# EAGLE library part EG912YEUAA-N06-SNNSA (library EG912YEUAA-N06-SNNSA)
DESCRIPTION PLACE HOLDER Source: Datasheet
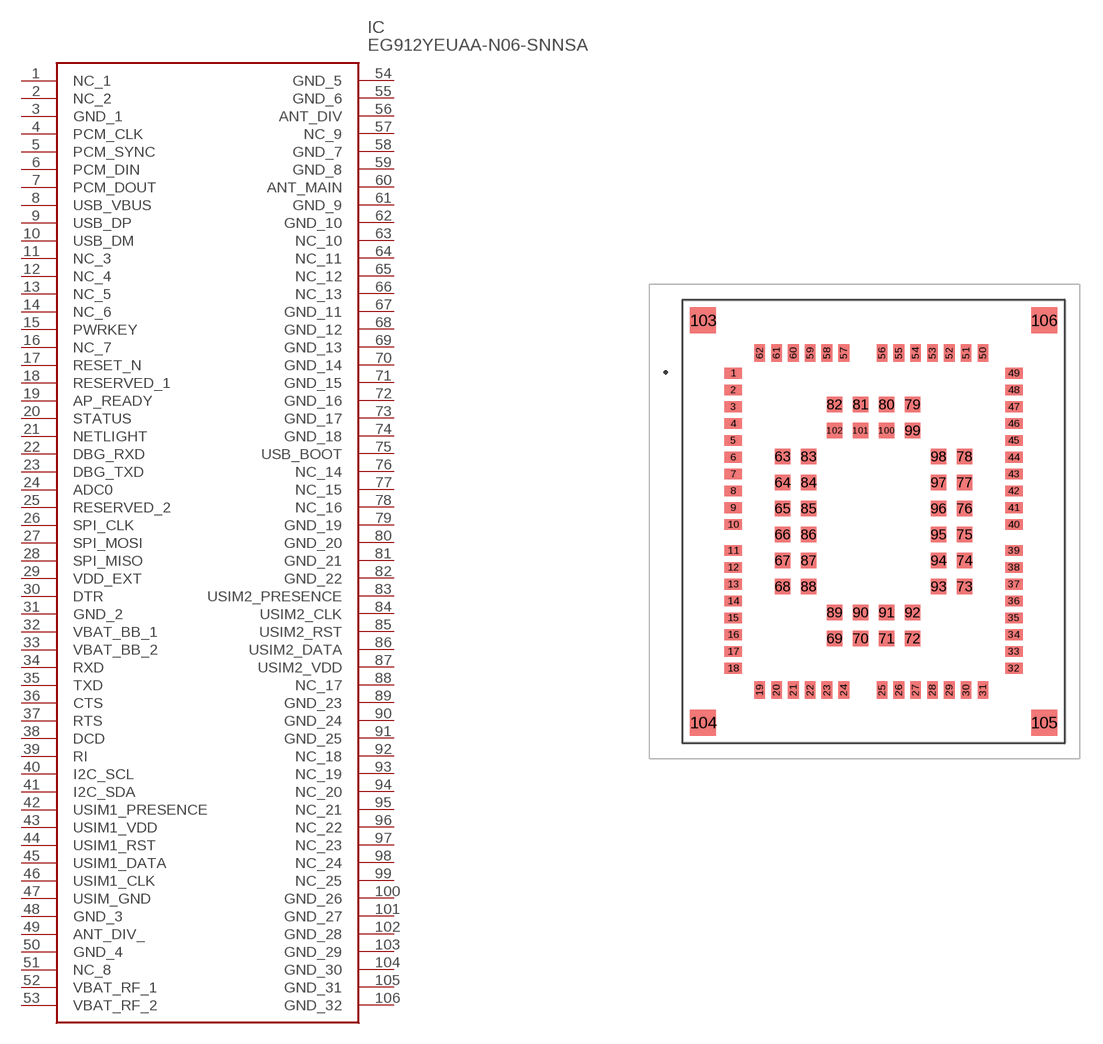
[diagram p0: symbol with the pads of EG912YEUAAN06SNNSA; footprint EG912YEUAAN06SNNSA]

Designator prefix IC

## EG912YEUAA-N06-SNNSA (Arrow_Part_Number: EG912YEUAA-N06-SNNSA; Arrow_Price-Stock: https://www.arrow.com/en/products/eg912yeuaa-n06-snnsa/quectel-wireless-solutions-co-ltd?region=nac; Description: DESCRIPTION PLACE HOLDER; Height: 2.5mm; Manufacturer_Name: Quectel; Manufacturer_Part_Number: EG912YEUAA-N06-SNNSA; Mouser_Part_Number: 277-EG912YEUAN6SNNSA; Mouser_Price-Stock: https://www.mouser.co.uk/ProductDetail/Quectel/EG912YEUAA-N06-SNNSA?qs=zW32dvEIR3tlKTTxnXn4Aw%3D%3D)  [EG912YEUAAN06SNNSA]
1  NC_1
2  NC_2
3  GND_1
4  PCM_CLK
5  PCM_SYNC
6  PCM_DIN
7  PCM_DOUT
8  USB_VBUS
9  USB_DP
10  USB_DM
11  NC_3
12  NC_4
13  NC_5
14  NC_6
15  PWRKEY
16  NC_7
17  RESET_N
18  RESERVED_1
19  AP_READY
20  STATUS
21  NETLIGHT
22  DBG_RXD
23  DBG_TXD
24  ADC0
25  RESERVED_2
26  SPI_CLK
27  SPI_MOSI
28  SPI_MISO
29  VDD_EXT
30  DTR
31  GND_2
32  VBAT_BB_1
33  VBAT_BB_2
34  RXD
35  TXD
36  CTS
37  RTS
38  DCD
39  RI
40  I2C_SCL
41  I2C_SDA
42  USIM1_PRESENCE
43  USIM1_VDD
44  USIM1_RST
45  USIM1_DATA
46  USIM1_CLK
47  USIM_GND
48  GND_3
49  ANT_DIV_
50  GND_4
51  NC_8
52  VBAT_RF_1
53  VBAT_RF_2
54  GND_5
55  GND_6
56  ANT_DIV
57  NC_9
58  GND_7
59  GND_8
60  ANT_MAIN
61  GND_9
62  GND_10
63  NC_10
64  NC_11
65  NC_12
66  NC_13
67  GND_11
68  GND_12
69  GND_13
70  GND_14
71  GND_15
72  GND_16
73  GND_17
74  GND_18
75  USB_BOOT
76  NC_14
77  NC_15
78  NC_16
79  GND_19
80  GND_20
81  GND_21
82  GND_22
83  USIM2_PRESENCE
84  USIM2_CLK
85  USIM2_RST
86  USIM2_DATA
87  USIM2_VDD
88  NC_17
89  GND_23
90  GND_24
91  GND_25
92  NC_18
93  NC_19
94  NC_20
95  NC_21
96  NC_22
97  NC_23
98  NC_24
99  NC_25
100  GND_26
101  GND_27
102  GND_28
103  GND_29
104  GND_30
105  GND_31
106  GND_32

## Footprint EG912YEUAAN06SNNSA (pad centres in mm)
EG912YEUAA-N06-SNNSA-1
smd 1.15 x 0.7: 1 -9.175,9.7; 2 -9.175,8.6; 3 -9.175,7.5; 4 -9.175,6.4; 5 -9.175,5.3; 6 -9.175,4.2; 7 -9.175,3.1; 8 -9.175,2; 9 -9.175,0.9; 10 -9.175,-0.2; 11 -9.175,-1.9; 12 -9.175,-3; 13 -9.175,-4.1; 14 -9.175,-5.2; 15 -9.175,-6.3; 16 -9.175,-7.4; 17 -9.175,-8.5; 18 -9.175,-9.6; 32 9.175,-9.6; 33 9.175,-8.5; 34 9.175,-7.4; 35 9.175,-6.3; 36 9.175,-5.2; 37 9.175,-4.1; 38 9.175,-3; 39 9.175,-1.9; 40 9.175,-0.2; 41 9.175,0.9; 42 9.175,2; 43 9.175,3.1; 44 9.175,4.2; 45 9.175,5.3; 46 9.175,6.4; 47 9.175,7.5; 48 9.175,8.6; 49 9.175,9.7
smd 0.7 x 1.15: 19 -7.45,-11.025; 20 -6.35,-11.025; 21 -5.25,-11.025; 22 -4.15,-11.025; 23 -3.05,-11.025; 24 -1.95,-11.025; 25 0.55,-11.025; 26 1.65,-11.025; 27 2.75,-11.025; 28 3.85,-11.025; 29 4.95,-11.025; 30 6.05,-11.025; 31 7.15,-11.025; 50 7.15,11.025; 51 6.05,11.025; 52 4.95,11.025; 53 3.85,11.025; 54 2.75,11.025; 55 1.65,11.025; 56 0.55,11.025; 57 -1.95,11.025; 58 -3.05,11.025; 59 -4.15,11.025; 60 -5.25,11.025; 61 -6.35,11.025; 62 -7.45,11.025
smd 1 x 1: 63 -5.95,4.25; 64 -5.95,2.55; 65 -5.95,0.85; 66 -5.95,-0.85; 67 -5.95,-2.55; 68 -5.95,-4.25; 69 -2.55,-7.65; 70 -0.85,-7.65; 71 0.85,-7.65; 72 2.55,-7.65; 73 5.95,-4.25; 74 5.95,-2.55; 75 5.95,-0.85; 76 5.95,0.85; 77 5.95,2.55; 78 5.95,4.25; 79 2.55,7.65; 80 0.85,7.65; 81 -0.85,7.65; 82 -2.55,7.65; 83 -4.25,4.25; 84 -4.25,2.55; 85 -4.25,0.85; 86 -4.25,-0.85; 87 -4.25,-2.55; 88 -4.25,-4.25; 89 -2.55,-5.95; 90 -0.85,-5.95; 91 0.85,-5.95; 92 2.55,-5.95; 93 4.25,-4.25; 94 4.25,-2.55; 95 4.25,-0.85; 96 4.25,0.85; 97 4.25,2.55; 98 4.25,4.25; 99 2.55,5.95; 100 0.85,5.95; 101 -0.85,5.95; 102 -2.55,5.95
smd 1.7 x 1.7: 103 -11.15,13.15; 104 -11.15,-13.15; 105 11.15,-13.15; 106 11.15,13.15